# EAGLE library part IC_UP_AT76C712 (library psas)
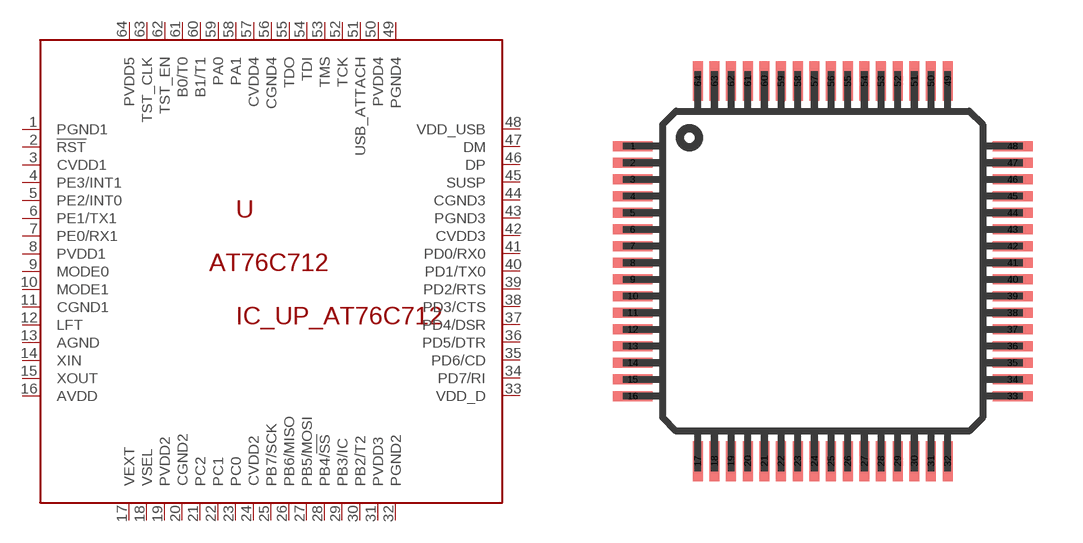
[diagram p31: symbol with the pads of TQFP64-10X10; footprint TQFP64-10X10]

Designator prefix U

## IC_UP_AT76C712  [TQFP64-10X10]
1  PGND1  pwr
2  !RST  in
3  CVDD1  pwr
4  PE3/INT1
5  PE2/INT0
6  PE1/TX1
7  PE0/RX1
8  PVDD1  pwr
9  MODE0  in
10  MODE1  in
11  CGND1  pwr
12  LFT  pas
13  AGND  pwr
14  XIN  pas
15  XOUT  pas
16  AVDD  pwr
17  VEXT  in
18  VSEL  in
19  PVDD2  pwr
20  CGND2  pwr
21  PC2
22  PC1
23  PC0
24  CVDD2  pwr
25  PB7/SCK  in
26  PB6/MISO
27  PB5/MOSI
28  PB4/!SS
29  PB3/IC
30  PB2/T2
31  PVDD3  pwr
32  PGND2  pwr
33  VDD_D  pwr
34  PD7/RI
35  PD6/CD
36  PD5/DTR
37  PD4/DSR
38  PD3/CTS
39  PD2/RTS
40  PD1/TX0
41  PD0/RX0  pwr
42  CVDD3  pwr
43  PGND3  pwr
44  CGND3  pwr
45  SUSP  out
46  DP
47  DM
48  VDD_USB  pwr
49  PGND4  pwr
50  PVDD4  pwr
51  USB_ATTACH  out
52  TCK  in
53  TMS  in
54  TDI  in
55  TDO  out
56  CGND4  pwr
57  CVDD4  pwr
58  PA1
59  PA0
60  B1/T1
61  B0/T0
62  TST_EN  in
63  TST_CLK  in
64  PVDD5  pwr

## Footprint TQFP64-10X10 (pad centres in mm)
smd 1.2 x 0.3: 1 -5.7,3.75; 2 -5.7,3.25; 3 -5.7,2.75; 4 -5.7,2.25; 5 -5.7,1.75; 6 -5.7,1.25; 7 -5.7,0.75; 8 -5.7,0.25; 9 -5.7,-0.25; 10 -5.7,-0.75; 11 -5.7,-1.25; 12 -5.7,-1.75; 13 -5.7,-2.25; 14 -5.7,-2.75; 15 -5.7,-3.25; 16 -5.7,-3.75; 33 5.7,-3.75; 34 5.7,-3.25; 35 5.7,-2.75; 36 5.7,-2.25; 37 5.7,-1.75; 38 5.7,-1.25; 39 5.7,-0.75; 40 5.7,-0.25; 41 5.7,0.25; 42 5.7,0.75; 43 5.7,1.25; 44 5.7,1.75; 45 5.7,2.25; 46 5.7,2.75; 47 5.7,3.25; 48 5.7,3.75
smd 0.3 x 1.2: 17 -3.75,-5.7; 18 -3.25,-5.7; 19 -2.75,-5.7; 20 -2.25,-5.7; 21 -1.75,-5.7; 22 -1.25,-5.7; 23 -0.75,-5.7; 24 -0.25,-5.7; 25 0.25,-5.7; 26 0.75,-5.7; 27 1.25,-5.7; 28 1.75,-5.7; 29 2.25,-5.7; 30 2.75,-5.7; 31 3.25,-5.7; 32 3.75,-5.7; 49 3.75,5.7; 50 3.25,5.7; 51 2.75,5.7; 52 2.25,5.7; 53 1.75,5.7; 54 1.25,5.7; 55 0.75,5.7; 56 0.25,5.7; 57 -0.25,5.7; 58 -0.75,5.7; 59 -1.25,5.7; 60 -1.75,5.7; 61 -2.25,5.7; 62 -2.75,5.7; 63 -3.25,5.7; 64 -3.75,5.7